# EAGLE library part CMUT1D_2X8 (library ck)
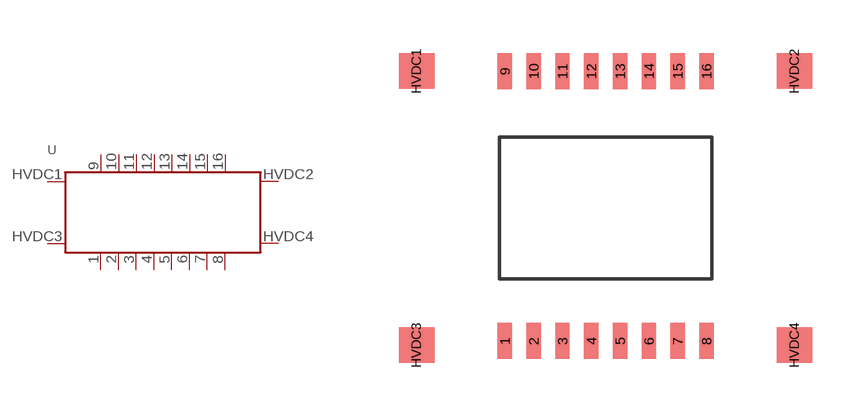
[diagram p32: symbol with the pads of CMUT1D_2X8_16MIL; footprint CMUT1D_2X8_16MIL]

Designator prefix U

## CMUT1D_2X8  [CMUT1D_2X8_16MIL]
1  O1
2  O2
3  O3
4  O4
5  O5
6  O6
7  O7
8  O8
9  O1_
10  O2_
11  O3_
12  O4_
13  O5_
14  O6_
15  O7_
16  O8_
HVDC1  HVDC
HVDC2  HVDC
HVDC3  HVDC
HVDC4  HVDC

## Footprint CMUT1D_2X8_16MIL (pad centres in mm)
smd 0.406 x 1.016: 1 -2.845,-3.75; 2 -2.032,-3.75; 3 -1.219,-3.75; 4 -0.406,-3.75; 5 0.406,-3.75; 6 1.219,-3.75; 7 2.032,-3.75; 8 2.845,-3.75; 9 -2.845,3.87; 10 -2.032,3.87; 11 -1.219,3.87; 12 -0.406,3.87; 13 0.406,3.87; 14 1.219,3.87; 15 2.032,3.87; 16 2.845,3.87
smd 1 x 1: HVDC1 -5.334,3.87; HVDC2 5.334,3.87; HVDC3 -5.334,-3.87; HVDC4 5.334,-3.87